# Altium footprint library cortexjtag.PcbLib: 1 footprints
Each footprint in its own frame and in the unit in brackets; x right, y up, seen from the top. Pads: shape width x height; smd on the part's side, far side on the other; paste and mask are expansions set on the pad; w line width, h text height; cw(c..) or ccw(c..) is an arc to the next point about the centre after c.
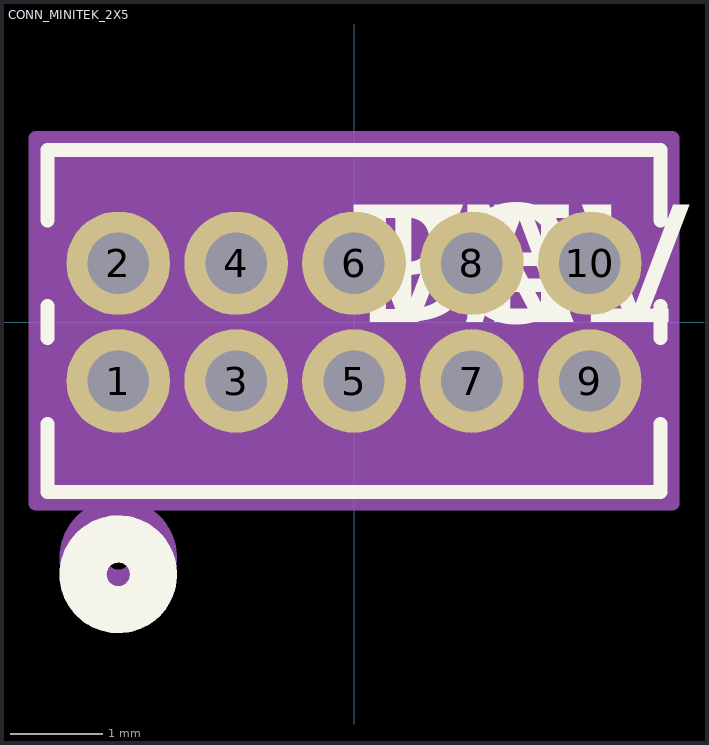
[diagram p0: the footprint, top view; thin cyan lines are the x and y axes]

## CONN_MINITEK_2X5 [mil]
pads (10):
  round 44 / inner round 60 / far side round 44 hole 26: 1(-100,-25) 2(-100,25) 3(-50,-25) 4(-50,25) 5(0,-25) 6(0,25) 7(50,-25) 8(50,25) 9(100,-25) 10(100,25)
Top Overlay:
  circle w20: c-100,-107 r15
  lines w6: -130,-43.22 -130,-72 130,-72 130,-43.22 ; -130,-6.78 -130,6.78 ; -130,43.22 -130,73 130,73 130,43.22 ; 130,-6.78 130,6.78
  text "TOL" at 0,0 h50
  text "VAL" at 0,0 h50
  text "DEV" at 0,0 h50
  text "PN" at 0,0 h50
Bottom Overlay:
  circle w20: c-100,-107 r15
Mechanical 13:
  circle w20: c-100,-100 r15
  lines w1: -125,-67 -125,68 125,68 125,-67 -125,-67
  text "RefDes2" at 0,0 h50
Mechanical 15:
  region: 135,78 -135,78 -135,-77 135,-77
  lines w6: -135,-77 135,-77 135,78 -135,78 -135,-77
3D body: height 10, standoff 0, extent 0,0 10,10